# Altium schematic symbol library Cp1812.Schlib: 1 symbol
Pins are listed as number, name and electrical type; pins without a type are passive.

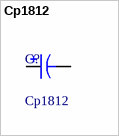
[diagram p0: symbol Cp1812]

## Cp1812
designator C?
1812 Polarized Chip Capacitor - Standard
pins: 1, 2